# Altium footprint library Power Jack.PcbLib: 1 footprints
Each footprint in its own frame and in the unit in brackets; x right, y up, seen from the top. Pads: shape width x height; smd on the part's side, far side on the other; paste and mask are expansions set on the pad; w line width, h text height; cw(c..) or ccw(c..) is an arc to the next point about the centre after c.
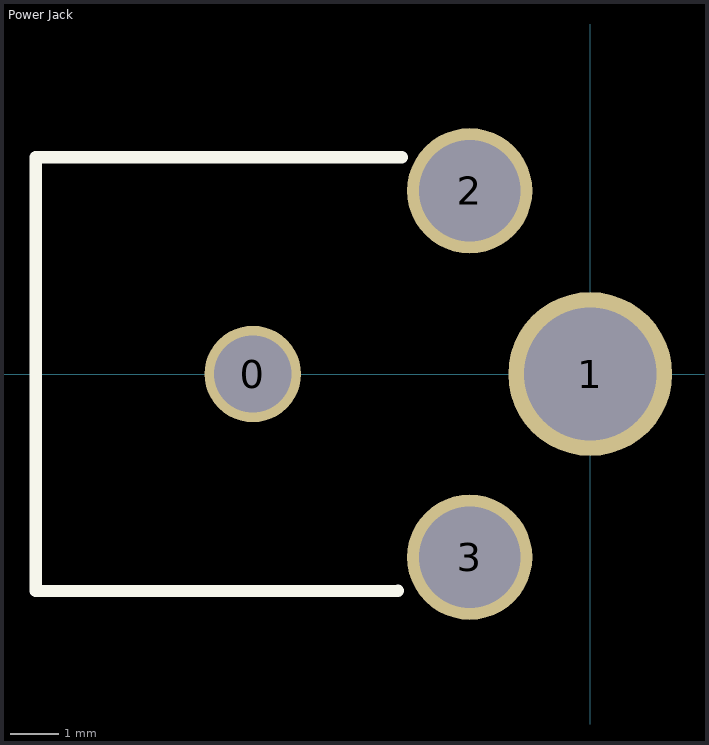
[diagram p0: the footprint, top view; thin cyan lines are the x and y axes]

## Power Jack [mm] "PJ1-021 CUI barrel power jack"
height 10
pads (4):
  round 2 hole 1.6: 0(-7,0)
  round 3.4 hole 2.75: 1(0,0)
  round 2.6 hole 2.1: 2(-2.5,3.8) 3(-2.5,-3.8)
Top Overlay:
  lines w0.254: -3.988,-4.496 -11.5,-4.5 -11.5,4.496 -3.912,4.496